# Altium integrated library TI Data Converters Analog to Digital Converter.IntLib: 2197 symbols (part 15 of 168)
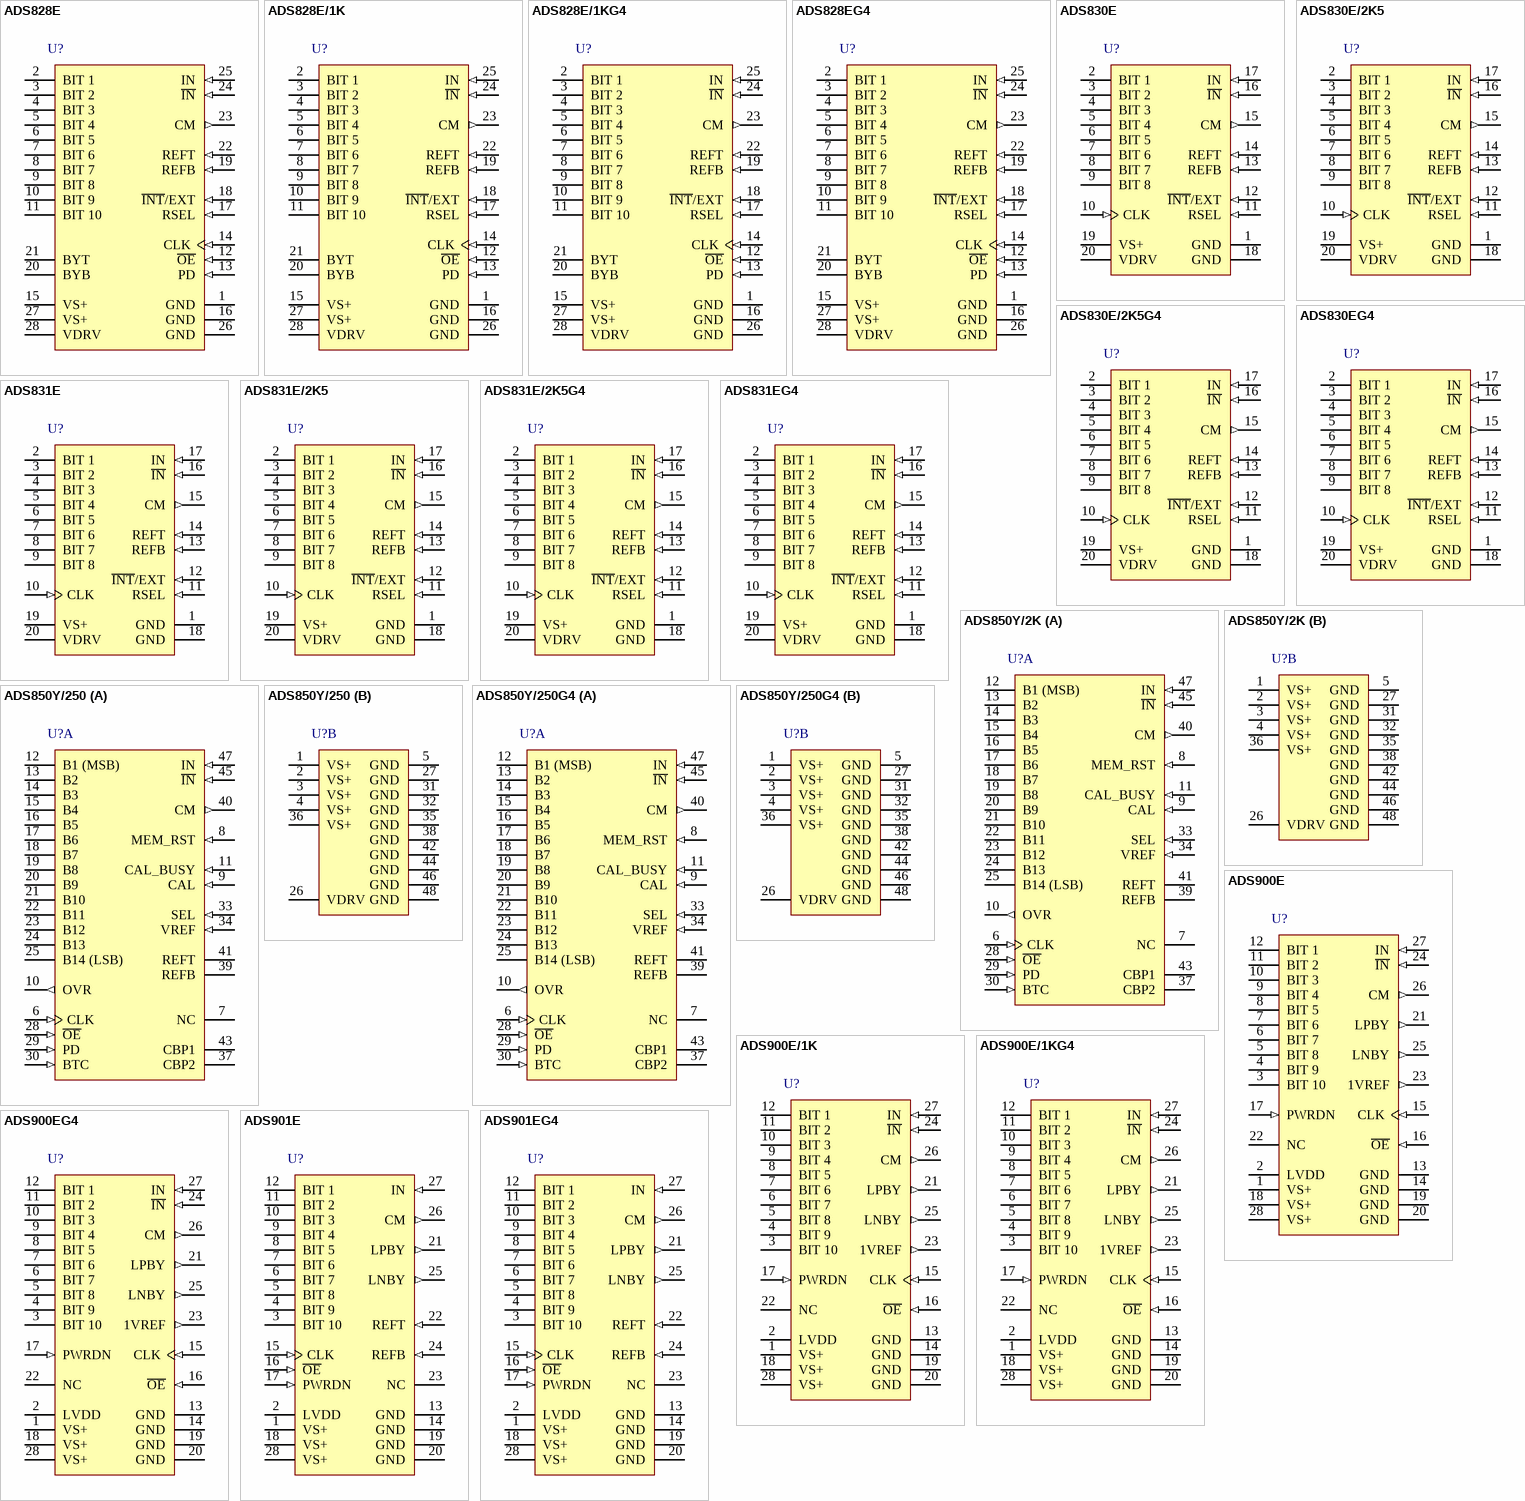
[diagram p140: symbols ADS828E to ADS901EG4]

## ADS830EG4
designator U?
8-Bit, 60 MSPS ADC Single-Ended / Differential Input, Internal / External Reference and Programmble Input Range, -40 to 85 degC, 20-pin SOP (DBQ20), Green (RoHS & no Sb/Br); Manufacturer: Texas Instruments; PartNumber: ADS830EG4; # Input Channels: 1; Analog Voltage AV/DD(Max)(V): 5.25; Analog Voltage AV/DD(Min)(V): 4.75; Architecture: Pipeline; Digital Supply(Max)(V): 5; Digital Supply(Min)(V): 3; ENOB(Bits): 7.7; INL(Max)(+/-LSB): 1.5; Interface: Parallel CMOS; Resolution(Bits): 8; Sample Rate (max)(SPS): 60M; SFDR(dB): 67; SINAD(dB): 48; SNR(dB): 49.5; SubFamily: High Speed ADC (>10MSPS); DatasheetVersion: SBAS086A; PackageVersion: 4073301-3/H, 10/2008; PackageReference: DBQ20; PackageDescription: 20-Pin Plastic Small Outline, Body 8.65 x 3.9 mm, Pitch 0.635 mm; Supplier 1: Digi-Key; Supplier Part Number 1: 296-2199-5-ND; Supplier 2: Newark; Supplier Part Number 2: 76C8332; Supplier 3: Mouser; Supplier Part Number 3: 595-TLV2541CDGK; Eco-Plan: Green (RoHS & no Sb/Br); Mounting Technology: Surface Mount; Code_JEDEC: MO-137; ComponentLink1Description: Manufacturer URL; ComponentLink1URL: http://www.ti.com/; ComponentLink2Description: Datasheet; ComponentLink2URL: http://www.ti.com/general/docs/lit/getliterature.tsp?genericPartNumber=ADS830&fileType=pdf; ComponentLink3Description: Package Specification; ComponentLink3URL: http://www.ti.com/litv/pdf/mpds210a
footprint TI-DBQ20_N (SOP, 20-Leads, Body 8.65x3.9mm, Pitch 0.635mm, IPC Medium Density)
footprint TI-DBQ20_L (SOP, 20-Leads, Body 8.65x3.9mm, Pitch 0.635mm, IPC High Density)
footprint TI-DBQ20_M (SOP, 20-Leads, Body 8.65x3.9mm, Pitch 0.635mm, IPC Low Density)
pins: 1 GND (power) "Ground", 2 BIT 1 (hiz) "Data Bit 1 (D7) (MSB)", 3 BIT 2 (hiz) "Data Bit 2 (D6)", 4 BIT 3 (hiz) "Data Bit 3 (D5)", 5 BIT 4 (hiz) "Data Bit 4 (D4)", 6 BIT 5 (hiz) "Data Bit 5 (D3)", 7 BIT 6 (hiz) "Data Bit 6 (D2)", 8 BIT 7 (hiz) "Data Bit 7 (D1)", 9 BIT 8 (hiz) "Data Bit 8 (D0) (LSB)", 10 CLK (in) "Convert Clock", 11 RSEL (in) "Input Range Select: HI = 2V; LO = 1V", 12 ~{INT}/EXT (in) "Reference Select: HI = External; LO = Internal", 13 REFB (in) "Bottom Reference", 14 REFT (in) "Top Reference", 15 CM (out) "Common-Mode Voltage Output", 16 ~{IN} (in) "Complementary Input", 17 IN (in) "Analog Input", 18 GND (power) "Ground", 19 VS+ (power) "+5V Supply", 20 VDRV (power) "Output Logic Driver Supply Voltage"

## ADS831E
designator U?
8-Bit, 80 MSPS ADC Single-Ended / Differential Input, Internal / External Reference and Programmble Input Range, -40 to 85 degC, 20-pin SOP (DBQ20), Green (RoHS & no Sb/Br); Manufacturer: Texas Instruments; PartNumber: ADS831E; # Input Channels: 1; Analog Voltage AV/DD(Max)(V): 5.25; Analog Voltage AV/DD(Min)(V): 4.75; Architecture: Pipeline; Digital Supply(Max)(V): 5; Digital Supply(Min)(V): 3; ENOB(Bits): 7.8; INL(Max)(+/-LSB): 2; Interface: Parallel CMOS; Resolution(Bits): 8; Sample Rate (max)(SPS): 80M; SFDR(dB): 67; SINAD(dB): 48.5; SNR(dB): 49; SubFamily: High Speed ADC (>10MSPS); DatasheetVersion: SBAS087A; PackageVersion: 4073301-3/H, 10/2008; PackageReference: DBQ20; PackageDescription: 20-Pin Plastic Small Outline, Body 8.65 x 3.9 mm, Pitch 0.635 mm; Supplier 1: Digi-Key; Supplier Part Number 1: TLV2541CDGKG4-ND; Supplier 2: Mouser; Supplier Part Number 2: 595-TLV2541CDGKG4; Eco-Plan: Green (RoHS & no Sb/Br); Mounting Technology: Surface Mount; Code_JEDEC: MO-137; ComponentLink1Description: Manufacturer URL; ComponentLink1URL: http://www.ti.com/; ComponentLink2Description: Datasheet; ComponentLink2URL: http://www.ti.com/general/docs/lit/getliterature.tsp?genericPartNumber=ADS831&fileType=pdf; ComponentLink3Description: Package Specification; ComponentLink3URL: http://www.ti.com/litv/pdf/mpds210a
footprint TI-DBQ20_N (SOP, 20-Leads, Body 8.65x3.9mm, Pitch 0.635mm, IPC Medium Density)
footprint TI-DBQ20_L (SOP, 20-Leads, Body 8.65x3.9mm, Pitch 0.635mm, IPC High Density)
footprint TI-DBQ20_M (SOP, 20-Leads, Body 8.65x3.9mm, Pitch 0.635mm, IPC Low Density)
pins: 1 GND (power) "Ground", 2 BIT 1 (hiz) "Data Bit 1 (D7) (MSB)", 3 BIT 2 (hiz) "Data Bit 2 (D6)", 4 BIT 3 (hiz) "Data Bit 3 (D5)", 5 BIT 4 (hiz) "Data Bit 4 (D4)", 6 BIT 5 (hiz) "Data Bit 5 (D3)", 7 BIT 6 (hiz) "Data Bit 6 (D2)", 8 BIT 7 (hiz) "Data Bit 7 (D1)", 9 BIT 8 (hiz) "Data Bit 8 (D0) (LSB)", 10 CLK (in) "Convert Clock", 11 RSEL (in) "Input Range Select: HI = 2V; LO = 1V", 12 ~{INT}/EXT (in) "Reference Select: HI = External; LO = Internal", 13 REFB (in) "Bottom Reference", 14 REFT (in) "Top Reference", 15 CM (out) "Common-Mode Voltage Output", 16 ~{IN} (in) "Complementary Input", 17 IN (in) "Analog Input", 18 GND (power) "Ground", 19 VS+ (power) "+5V Supply", 20 VDRV (power) "Output Logic Driver Supply Voltage"

## ADS831E/2K5
designator U?
8-Bit, 80 MSPS ADC Single-Ended / Differential Input, Internal / External Reference and Programmble Input Range, -40 to 85 degC, 20-pin SOP (DBQ20), Green (RoHS & no Sb/Br); Manufacturer: Texas Instruments; PartNumber: ADS831E/2K5; # Input Channels: 1; Analog Voltage AV/DD(Max)(V): 5.25; Analog Voltage AV/DD(Min)(V): 4.75; Architecture: Pipeline; Digital Supply(Max)(V): 5; Digital Supply(Min)(V): 3; ENOB(Bits): 7.8; INL(Max)(+/-LSB): 2; Interface: Parallel CMOS; Resolution(Bits): 8; Sample Rate (max)(SPS): 80M; SFDR(dB): 67; SINAD(dB): 48.5; SNR(dB): 49; SubFamily: High Speed ADC (>10MSPS); DatasheetVersion: SBAS087A; PackageVersion: 4073301-3/H, 10/2008; PackageReference: DBQ20; PackageDescription: 20-Pin Plastic Small Outline, Body 8.65 x 3.9 mm, Pitch 0.635 mm; Supplier 1: Digi-Key; Supplier Part Number 1: TLV2541CDGKR-ND; Supplier 2: Mouser; Supplier Part Number 2: 595-TLV2541CDGKR; Eco-Plan: Green (RoHS & no Sb/Br); Mounting Technology: Surface Mount; Code_JEDEC: MO-137; ComponentLink1Description: Manufacturer URL; ComponentLink1URL: http://www.ti.com/; ComponentLink2Description: Datasheet; ComponentLink2URL: http://www.ti.com/general/docs/lit/getliterature.tsp?genericPartNumber=ADS831&fileType=pdf; ComponentLink3Description: Package Specification; ComponentLink3URL: http://www.ti.com/litv/pdf/mpds210a
footprint TI-DBQ20_N (SOP, 20-Leads, Body 8.65x3.9mm, Pitch 0.635mm, IPC Medium Density)
footprint TI-DBQ20_L (SOP, 20-Leads, Body 8.65x3.9mm, Pitch 0.635mm, IPC High Density)
footprint TI-DBQ20_M (SOP, 20-Leads, Body 8.65x3.9mm, Pitch 0.635mm, IPC Low Density)
pins: 1 GND (power) "Ground", 2 BIT 1 (hiz) "Data Bit 1 (D7) (MSB)", 3 BIT 2 (hiz) "Data Bit 2 (D6)", 4 BIT 3 (hiz) "Data Bit 3 (D5)", 5 BIT 4 (hiz) "Data Bit 4 (D4)", 6 BIT 5 (hiz) "Data Bit 5 (D3)", 7 BIT 6 (hiz) "Data Bit 6 (D2)", 8 BIT 7 (hiz) "Data Bit 7 (D1)", 9 BIT 8 (hiz) "Data Bit 8 (D0) (LSB)", 10 CLK (in) "Convert Clock", 11 RSEL (in) "Input Range Select: HI = 2V; LO = 1V", 12 ~{INT}/EXT (in) "Reference Select: HI = External; LO = Internal", 13 REFB (in) "Bottom Reference", 14 REFT (in) "Top Reference", 15 CM (out) "Common-Mode Voltage Output", 16 ~{IN} (in) "Complementary Input", 17 IN (in) "Analog Input", 18 GND (power) "Ground", 19 VS+ (power) "+5V Supply", 20 VDRV (power) "Output Logic Driver Supply Voltage"

## ADS831E/2K5G4
designator U?
8-Bit, 80 MSPS ADC Single-Ended / Differential Input, Internal / External Reference and Programmble Input Range, -40 to 85 degC, 20-pin SOP (DBQ20), Green (RoHS & no Sb/Br); Manufacturer: Texas Instruments; PartNumber: ADS831E/2K5G4; # Input Channels: 1; Analog Voltage AV/DD(Max)(V): 5.25; Analog Voltage AV/DD(Min)(V): 4.75; Architecture: Pipeline; Digital Supply(Max)(V): 5; Digital Supply(Min)(V): 3; ENOB(Bits): 7.8; INL(Max)(+/-LSB): 2; Interface: Parallel CMOS; Resolution(Bits): 8; Sample Rate (max)(SPS): 80M; SFDR(dB): 67; SINAD(dB): 48.5; SNR(dB): 49; SubFamily: High Speed ADC (>10MSPS); DatasheetVersion: SBAS087A; PackageVersion: 4073301-3/H, 10/2008; PackageReference: DBQ20; PackageDescription: 20-Pin Plastic Small Outline, Body 8.65 x 3.9 mm, Pitch 0.635 mm; Supplier 1: Digi-Key; Supplier Part Number 1: TLV2541CDGKRG4-ND; Supplier 2: Mouser; Supplier Part Number 2: 595-TLV2541CDGKRG4; Eco-Plan: Green (RoHS & no Sb/Br); Mounting Technology: Surface Mount; Code_JEDEC: MO-137; ComponentLink1Description: Manufacturer URL; ComponentLink1URL: http://www.ti.com/; ComponentLink2Description: Datasheet; ComponentLink2URL: http://www.ti.com/general/docs/lit/getliterature.tsp?genericPartNumber=ADS831&fileType=pdf; ComponentLink3Description: Package Specification; ComponentLink3URL: http://www.ti.com/litv/pdf/mpds210a
footprint TI-DBQ20_N (SOP, 20-Leads, Body 8.65x3.9mm, Pitch 0.635mm, IPC Medium Density)
footprint TI-DBQ20_L (SOP, 20-Leads, Body 8.65x3.9mm, Pitch 0.635mm, IPC High Density)
footprint TI-DBQ20_M (SOP, 20-Leads, Body 8.65x3.9mm, Pitch 0.635mm, IPC Low Density)
pins: 1 GND (power) "Ground", 2 BIT 1 (hiz) "Data Bit 1 (D7) (MSB)", 3 BIT 2 (hiz) "Data Bit 2 (D6)", 4 BIT 3 (hiz) "Data Bit 3 (D5)", 5 BIT 4 (hiz) "Data Bit 4 (D4)", 6 BIT 5 (hiz) "Data Bit 5 (D3)", 7 BIT 6 (hiz) "Data Bit 6 (D2)", 8 BIT 7 (hiz) "Data Bit 7 (D1)", 9 BIT 8 (hiz) "Data Bit 8 (D0) (LSB)", 10 CLK (in) "Convert Clock", 11 RSEL (in) "Input Range Select: HI = 2V; LO = 1V", 12 ~{INT}/EXT (in) "Reference Select: HI = External; LO = Internal", 13 REFB (in) "Bottom Reference", 14 REFT (in) "Top Reference", 15 CM (out) "Common-Mode Voltage Output", 16 ~{IN} (in) "Complementary Input", 17 IN (in) "Analog Input", 18 GND (power) "Ground", 19 VS+ (power) "+5V Supply", 20 VDRV (power) "Output Logic Driver Supply Voltage"

## ADS831EG4
designator U?
8-Bit, 80 MSPS ADC Single-Ended / Differential Input, Internal / External Reference and Programmble Input Range, -40 to 85 degC, 20-pin SOP (DBQ20), Green (RoHS & no Sb/Br); Manufacturer: Texas Instruments; PartNumber: ADS831EG4; # Input Channels: 1; Analog Voltage AV/DD(Max)(V): 5.25; Analog Voltage AV/DD(Min)(V): 4.75; Architecture: Pipeline; Digital Supply(Max)(V): 5; Digital Supply(Min)(V): 3; ENOB(Bits): 7.8; INL(Max)(+/-LSB): 2; Interface: Parallel CMOS; Resolution(Bits): 8; Sample Rate (max)(SPS): 80M; SFDR(dB): 67; SINAD(dB): 48.5; SNR(dB): 49; SubFamily: High Speed ADC (>10MSPS); DatasheetVersion: SBAS087A; PackageVersion: 4073301-3/H, 10/2008; PackageReference: DBQ20; PackageDescription: 20-Pin Plastic Small Outline, Body 8.65 x 3.9 mm, Pitch 0.635 mm; Supplier 1: Digi-Key; Supplier Part Number 1: 296-2973-5-ND; Supplier 2: Newark; Supplier Part Number 2: 76C8335; Supplier 3: Mouser; Supplier Part Number 3: 595-TLV2541IDGK; Eco-Plan: Green (RoHS & no Sb/Br); Mounting Technology: Surface Mount; Code_JEDEC: MO-137; ComponentLink1Description: Manufacturer URL; ComponentLink1URL: http://www.ti.com/; ComponentLink2Description: Datasheet; ComponentLink2URL: http://www.ti.com/general/docs/lit/getliterature.tsp?genericPartNumber=ADS831&fileType=pdf; ComponentLink3Description: Package Specification; ComponentLink3URL: http://www.ti.com/litv/pdf/mpds210a
footprint TI-DBQ20_N (SOP, 20-Leads, Body 8.65x3.9mm, Pitch 0.635mm, IPC Medium Density)
footprint TI-DBQ20_L (SOP, 20-Leads, Body 8.65x3.9mm, Pitch 0.635mm, IPC High Density)
footprint TI-DBQ20_M (SOP, 20-Leads, Body 8.65x3.9mm, Pitch 0.635mm, IPC Low Density)
pins: 1 GND (power) "Ground", 2 BIT 1 (hiz) "Data Bit 1 (D7) (MSB)", 3 BIT 2 (hiz) "Data Bit 2 (D6)", 4 BIT 3 (hiz) "Data Bit 3 (D5)", 5 BIT 4 (hiz) "Data Bit 4 (D4)", 6 BIT 5 (hiz) "Data Bit 5 (D3)", 7 BIT 6 (hiz) "Data Bit 6 (D2)", 8 BIT 7 (hiz) "Data Bit 7 (D1)", 9 BIT 8 (hiz) "Data Bit 8 (D0) (LSB)", 10 CLK (in) "Convert Clock", 11 RSEL (in) "Input Range Select: HI = 2V; LO = 1V", 12 ~{INT}/EXT (in) "Reference Select: HI = External; LO = Internal", 13 REFB (in) "Bottom Reference", 14 REFT (in) "Top Reference", 15 CM (out) "Common-Mode Voltage Output", 16 ~{IN} (in) "Complementary Input", 17 IN (in) "Analog Input", 18 GND (power) "Ground", 19 VS+ (power) "+5V Supply", 20 VDRV (power) "Output Logic Driver Supply Voltage"

## ADS850Y/2K
designator U?
14-Bit, 10 MSPS ADC Single-Ended / Differential Input, Internal / External Reference, Self Calibrating, -40 to 85 degC, 48-pin QFP (PFB48), Green (RoHS & no Sb/Br); Manufacturer: Texas Instruments; PartNumber: ADS850Y/2K; # Input Channels: 1; Analog Voltage AV/DD(Max)(V): 5.3; Analog Voltage AV/DD(Min)(V): 4.7; Architecture: Pipeline; Digital Supply(Min)(V): 2.7; ENOB(Bits): 12.2; INL(Max)(+/-LSB): 5; Interface: Parallel CMOS; Resolution(Bits): 14; Sample Rate (max)(SPS): 10M; SFDR(dB): 85; SINAD(dB): 75; SNR(dB): 76; SubFamily: Precision ADC (<=10MSPS); DatasheetVersion: SBAS154C; PackageVersion: 4073176/B, 10/1996; PackageReference: PFB48; PackageDescription: 48-Pin Plastic Flat Pack, Body 7 x 7 mm, Pitch 0.5 mm; Supplier 1: Digi-Key; Supplier Part Number 1: TLV2541IDGKG4-ND; Supplier 2: Mouser; Supplier Part Number 2: 595-TLV2541IDGKG4; Digital Supply(Max)(V): 5.3; Eco-Plan: Green (RoHS & no Sb/Br); Mounting Technology: Surface Mount; Code_JEDEC: MS-026; ComponentLink1Description: Manufacturer URL; ComponentLink1URL: http://www.ti.com/; ComponentLink2Description: Datasheet; ComponentLink2URL: http://www.ti.com/general/docs/lit/getliterature.tsp?genericPartNumber=ADS850&fileType=pdf; ComponentLink3Description: Package Specification; ComponentLink3URL: http://www.ti.com/lit/ml/mtqf019a/mtqf019a.pdf
footprint TI-PFB48_N (QFP, 48-Leads, Body 7x7mm, Pitch 0.5mm, IPC Medium Density)
footprint TI-PFB48_L (QFP, 48-Leads, Body 7x7mm, Pitch 0.5mm, IPC High Density)
footprint TI-PFB48_M (QFP, 48-Leads, Body 7x7mm, Pitch 0.5mm, IPC Low Density)
part A pins: 6 CLK (in) "Convert Clock Input", 7 NC "No Connection", 8 MEM_RST (in) "Memory Reset. When pulsed HIGH, resets memory to zero. Not intended as a function pin, so should be permanently tied to ground.", 9 CAL (in) "When Pulsed High, puts ADC into Calibration Mode (2 clock cycles).", 10 OVR (out) "Over Range Indicator", 11 CAL_BUSY (in) "Indicates in Calibration Mode.", 12 B1 (MSB) (hiz) "Data Bit 1 (D13) (MSB)", 13 B2 (hiz) "Data Bit 2 (D12)", 14 B3 (hiz) "Data Bit 3 (D11)", 15 B4 (hiz) "Data Bit 4 (D10)", 16 B5 (hiz) "Data Bit 5 (D9)", 17 B6 (hiz) "Data Bit 6 (D8)", 18 B7 (hiz) "Data Bit 7 (D7)", 19 B8 (hiz) "Data Bit 8 (D6)", 20 B9 (hiz) "Data Bit 9 (D5)", 21 B10 (hiz) "Data Bit 10 (D4)", 22 B11 (hiz) "Data Bit 11 (D3)", 23 B12 (hiz) "Data Bit 12 (D2)", 24 B13 (hiz) "Data Bit 13 (D1)", 25 B14 (LSB) (hiz) "Data Bit 14 (D0) (LSB)", 28 ~{OE} (in) "Output Enable: HI = High Impedance; LO = Normal Operation (50kohm Internal Pull-Down Resistor)", 29 PD (in) "Power Down: HI = Power Down; LO = Normal Operation (50kohm Internal Pull-Down Resistor)", 30 BTC (in) "HI = Binary Two’s Complement (BTC); LO = Straight Offset Binary (SOB)", 33 SEL (in) "Input Range Select", 34 VREF (in) "Reference Voltage Select", 37 CBP2 "Calibration Reference Bypass 2 (0.1uF ceramic capacitor recommended for decoupling.)", 39 REFB "Bottom Reference Voltage Bypass", 40 CM (out) "Common-Mode Voltage (mid-scale). Not intended for driving a load", 41 REFT "Top Reference Voltage Bypass", 43 CBP1 "Calibration Reference Bypass 1 (0.1uF ceramic capacitor recommended for decoupling.)", 45 ~{IN} (in) "Complementary Analog Input (-)", 47 IN (in) "Analog Input (+)"
part B pins: 1 VS+ (power) "+5V Supply", 2 VS+ (power) "+5V Supply", 3 VS+ (power) "+5V Supply", 4 VS+ (power) "+5V Supply", 5 GND (power) "Ground", 26 VDRV (power) "Output Driver Voltage", 27 GND (power) "Ground", 31 GND (power) "Ground", 32 GND (power) "Ground", 35 GND (power) "Ground", 36 VS+ (power) "+5V Supply", 38 GND (power) "Ground", 42 GND (power) "Ground", 44 GND (power) "Ground", 46 GND (power) "Ground", 48 GND (power) "Ground"

## ADS850Y/250
designator U?
14-Bit, 10 MSPS ADC Single-Ended / Differential Input, Internal / External Reference, Self Calibrating, -40 to 85 degC, 48-pin QFP (PFB48), Green (RoHS & no Sb/Br); Manufacturer: Texas Instruments; PartNumber: ADS850Y/250; # Input Channels: 1; Analog Voltage AV/DD(Max)(V): 5.3; Analog Voltage AV/DD(Min)(V): 4.7; Architecture: Pipeline; Digital Supply(Min)(V): 2.7; ENOB(Bits): 12.2; INL(Max)(+/-LSB): 5; Interface: Parallel CMOS; Resolution(Bits): 14; Sample Rate (max)(SPS): 10M; SFDR(dB): 85; SINAD(dB): 75; SNR(dB): 76; SubFamily: Precision ADC (<=10MSPS); DatasheetVersion: SBAS154C; PackageVersion: 4073176/B, 10/1996; PackageReference: PFB48; PackageDescription: 48-Pin Plastic Flat Pack, Body 7 x 7 mm, Pitch 0.5 mm; Supplier 1: Digi-Key; Supplier Part Number 1: TLV2541IDGKR-ND; Supplier 2: Mouser; Supplier Part Number 2: 595-TLV2541IDGKR; Digital Supply(Max)(V): 5.3; Eco-Plan: Green (RoHS & no Sb/Br); Mounting Technology: Surface Mount; Code_JEDEC: MS-026; ComponentLink1Description: Manufacturer URL; ComponentLink1URL: http://www.ti.com/; ComponentLink2Description: Datasheet; ComponentLink2URL: http://www.ti.com/general/docs/lit/getliterature.tsp?genericPartNumber=ADS850&fileType=pdf; ComponentLink3Description: Package Specification; ComponentLink3URL: http://www.ti.com/lit/ml/mtqf019a/mtqf019a.pdf
footprint TI-PFB48_N (QFP, 48-Leads, Body 7x7mm, Pitch 0.5mm, IPC Medium Density)
footprint TI-PFB48_L (QFP, 48-Leads, Body 7x7mm, Pitch 0.5mm, IPC High Density)
footprint TI-PFB48_M (QFP, 48-Leads, Body 7x7mm, Pitch 0.5mm, IPC Low Density)
part A pins: 6 CLK (in) "Convert Clock Input", 7 NC "No Connection", 8 MEM_RST (in) "Memory Reset. When pulsed HIGH, resets memory to zero. Not intended as a function pin, so should be permanently tied to ground.", 9 CAL (in) "When Pulsed High, puts ADC into Calibration Mode (2 clock cycles).", 10 OVR (out) "Over Range Indicator", 11 CAL_BUSY (in) "Indicates in Calibration Mode.", 12 B1 (MSB) (hiz) "Data Bit 1 (D13) (MSB)", 13 B2 (hiz) "Data Bit 2 (D12)", 14 B3 (hiz) "Data Bit 3 (D11)", 15 B4 (hiz) "Data Bit 4 (D10)", 16 B5 (hiz) "Data Bit 5 (D9)", 17 B6 (hiz) "Data Bit 6 (D8)", 18 B7 (hiz) "Data Bit 7 (D7)", 19 B8 (hiz) "Data Bit 8 (D6)", 20 B9 (hiz) "Data Bit 9 (D5)", 21 B10 (hiz) "Data Bit 10 (D4)", 22 B11 (hiz) "Data Bit 11 (D3)", 23 B12 (hiz) "Data Bit 12 (D2)", 24 B13 (hiz) "Data Bit 13 (D1)", 25 B14 (LSB) (hiz) "Data Bit 14 (D0) (LSB)", 28 ~{OE} (in) "Output Enable: HI = High Impedance; LO = Normal Operation (50kohm Internal Pull-Down Resistor)", 29 PD (in) "Power Down: HI = Power Down; LO = Normal Operation (50kohm Internal Pull-Down Resistor)", 30 BTC (in) "HI = Binary Two’s Complement (BTC); LO = Straight Offset Binary (SOB)", 33 SEL (in) "Input Range Select", 34 VREF (in) "Reference Voltage Select", 37 CBP2 "Calibration Reference Bypass 2 (0.1uF ceramic capacitor recommended for decoupling.)", 39 REFB "Bottom Reference Voltage Bypass", 40 CM (out) "Common-Mode Voltage (mid-scale). Not intended for driving a load", 41 REFT "Top Reference Voltage Bypass", 43 CBP1 "Calibration Reference Bypass 1 (0.1uF ceramic capacitor recommended for decoupling.)", 45 ~{IN} (in) "Complementary Analog Input (-)", 47 IN (in) "Analog Input (+)"
part B pins: 1 VS+ (power) "+5V Supply", 2 VS+ (power) "+5V Supply", 3 VS+ (power) "+5V Supply", 4 VS+ (power) "+5V Supply", 5 GND (power) "Ground", 26 VDRV (power) "Output Driver Voltage", 27 GND (power) "Ground", 31 GND (power) "Ground", 32 GND (power) "Ground", 35 GND (power) "Ground", 36 VS+ (power) "+5V Supply", 38 GND (power) "Ground", 42 GND (power) "Ground", 44 GND (power) "Ground", 46 GND (power) "Ground", 48 GND (power) "Ground"

## ADS850Y/250G4
designator U?
14-Bit, 10 MSPS ADC Single-Ended / Differential Input, Internal / External Reference, Self Calibrating, -40 to 85 degC, 48-pin QFP (PFB48), Green (RoHS & no Sb/Br); Manufacturer: Texas Instruments; PartNumber: ADS850Y/250G4; # Input Channels: 1; Analog Voltage AV/DD(Max)(V): 5.3; Analog Voltage AV/DD(Min)(V): 4.7; Architecture: Pipeline; Digital Supply(Min)(V): 2.7; ENOB(Bits): 12.2; INL(Max)(+/-LSB): 5; Interface: Parallel CMOS; Resolution(Bits): 14; Sample Rate (max)(SPS): 10M; SFDR(dB): 85; SINAD(dB): 75; SNR(dB): 76; SubFamily: Precision ADC (<=10MSPS); DatasheetVersion: SBAS154C; PackageVersion: 4073176/B, 10/1996; PackageReference: PFB48; PackageDescription: 48-Pin Plastic Flat Pack, Body 7 x 7 mm, Pitch 0.5 mm; Supplier 1: Digi-Key; Supplier Part Number 1: TLV2541IDGKRG4-ND; Supplier 2: Mouser; Supplier Part Number 2: 595-TLV2541IDGKRG4; Digital Supply(Max)(V): 5.3; Eco-Plan: Green (RoHS & no Sb/Br); Mounting Technology: Surface Mount; Code_JEDEC: MS-026; ComponentLink1Description: Manufacturer URL; ComponentLink1URL: http://www.ti.com/; ComponentLink2Description: Datasheet; ComponentLink2URL: http://www.ti.com/general/docs/lit/getliterature.tsp?genericPartNumber=ADS850&fileType=pdf; ComponentLink3Description: Package Specification; ComponentLink3URL: http://www.ti.com/lit/ml/mtqf019a/mtqf019a.pdf
footprint TI-PFB48_N (QFP, 48-Leads, Body 7x7mm, Pitch 0.5mm, IPC Medium Density)
footprint TI-PFB48_L (QFP, 48-Leads, Body 7x7mm, Pitch 0.5mm, IPC High Density)
footprint TI-PFB48_M (QFP, 48-Leads, Body 7x7mm, Pitch 0.5mm, IPC Low Density)
part A pins: 6 CLK (in) "Convert Clock Input", 7 NC "No Connection", 8 MEM_RST (in) "Memory Reset. When pulsed HIGH, resets memory to zero. Not intended as a function pin, so should be permanently tied to ground.", 9 CAL (in) "When Pulsed High, puts ADC into Calibration Mode (2 clock cycles).", 10 OVR (out) "Over Range Indicator", 11 CAL_BUSY (in) "Indicates in Calibration Mode.", 12 B1 (MSB) (hiz) "Data Bit 1 (D13) (MSB)", 13 B2 (hiz) "Data Bit 2 (D12)", 14 B3 (hiz) "Data Bit 3 (D11)", 15 B4 (hiz) "Data Bit 4 (D10)", 16 B5 (hiz) "Data Bit 5 (D9)", 17 B6 (hiz) "Data Bit 6 (D8)", 18 B7 (hiz) "Data Bit 7 (D7)", 19 B8 (hiz) "Data Bit 8 (D6)", 20 B9 (hiz) "Data Bit 9 (D5)", 21 B10 (hiz) "Data Bit 10 (D4)", 22 B11 (hiz) "Data Bit 11 (D3)", 23 B12 (hiz) "Data Bit 12 (D2)", 24 B13 (hiz) "Data Bit 13 (D1)", 25 B14 (LSB) (hiz) "Data Bit 14 (D0) (LSB)", 28 ~{OE} (in) "Output Enable: HI = High Impedance; LO = Normal Operation (50kohm Internal Pull-Down Resistor)", 29 PD (in) "Power Down: HI = Power Down; LO = Normal Operation (50kohm Internal Pull-Down Resistor)", 30 BTC (in) "HI = Binary Two’s Complement (BTC); LO = Straight Offset Binary (SOB)", 33 SEL (in) "Input Range Select", 34 VREF (in) "Reference Voltage Select", 37 CBP2 "Calibration Reference Bypass 2 (0.1uF ceramic capacitor recommended for decoupling.)", 39 REFB "Bottom Reference Voltage Bypass", 40 CM (out) "Common-Mode Voltage (mid-scale). Not intended for driving a load", 41 REFT "Top Reference Voltage Bypass", 43 CBP1 "Calibration Reference Bypass 1 (0.1uF ceramic capacitor recommended for decoupling.)", 45 ~{IN} (in) "Complementary Analog Input (-)", 47 IN (in) "Analog Input (+)"
part B pins: 1 VS+ (power) "+5V Supply", 2 VS+ (power) "+5V Supply", 3 VS+ (power) "+5V Supply", 4 VS+ (power) "+5V Supply", 5 GND (power) "Ground", 26 VDRV (power) "Output Driver Voltage", 27 GND (power) "Ground", 31 GND (power) "Ground", 32 GND (power) "Ground", 35 GND (power) "Ground", 36 VS+ (power) "+5V Supply", 38 GND (power) "Ground", 42 GND (power) "Ground", 44 GND (power) "Ground", 46 GND (power) "Ground", 48 GND (power) "Ground"

## ADS900E
designator U?
10-Bit, 20 MSPS ADC Single-Ended / Differential Inputs, Int Reference and Adjustable Fullscale Range, -40 to 85 degC, 28-pin SOP (DB28), Green (RoHS & no Sb/Br); Manufacturer: Texas Instruments; PartNumber: ADS900E; # Input Channels: 1; Analog Voltage AV/DD(Max)(V): 3.7; Analog Voltage AV/DD(Min)(V): 2.7; Architecture: Pipeline; Interface: Parallel CMOS; Resolution(Bits): 10; Sample Rate (max)(SPS): 20M; SFDR(dB): 53; SINAD(dB): 48; SNR(dB): 49; SubFamily: High Speed ADC (>10MSPS); DatasheetVersion: SBAS058A; PackageVersion: 4040065/E, 12/2001; PackageReference: DB28; PackageDescription: 28-Pin Plastic Small Outline, Body 10.2 X 5.3 mm, Pitch 0.65 mm; Supplier 1: Digi-Key; Supplier Part Number 1: 296-2203-5-ND; Supplier 2: Newark; Supplier Part Number 2: 76C8362; Supplier 3: Mouser; Supplier Part Number 3: 595-TLV2545CDGK; Digital Supply(Max)(V): 3.7; Digital Supply(Min)(V): 2.7; Eco-Plan: Green (RoHS & no Sb/Br); Mounting Technology: Surface Mount; Code_JEDEC: MO-150; ComponentLink1Description: Manufacturer URL; ComponentLink1URL: http://www.ti.com/; ComponentLink2Description: Datasheet; ComponentLink2URL: http://www.ti.com/general/docs/lit/getliterature.tsp?genericPartNumber=ADS900&fileType=pdf; ComponentLink3Description: Package Specification; ComponentLink3URL: http://www.ti.com/lit/ml/msso002e/msso002e.pdf
footprint TI-DB28_N (SOP, 28-Leads, Body 10.2x5.3mm, Pitch 0.65mm, IPC Medium Density)
footprint TI-DB28_L (SOP, 28-Leads, Body 10.2x5.3mm, Pitch 0.65mm, IPC High Density)
footprint TI-DB28_M (SOP, 28-Leads, Body 10.2x5.3mm, Pitch 0.65mm, IPC Low Density)
pins: 1 VS+ (power) "Analog Supply", 2 LVDD (power) "Output Logic Driver Supply Voltage", 3 BIT 10 (hiz) "Data Bit 10 (D0) (LSB)", 4 BIT 9 (hiz) "Data Bit 9 (D1)", 5 BIT 8 (hiz) "Data Bit 8 (D2)", 6 BIT 7 (hiz) "Data Bit 7 (D3)", 7 BIT 6 (hiz) "Data Bit 6 (D4)", 8 BIT 5 (hiz) "Data Bit 5 (D5)", 9 BIT 4 (hiz) "Data Bit 4 (D6)", 10 BIT 3 (hiz) "Data Bit 3 (D7)", 11 BIT 2 (hiz) "Data Bit 2 (D8)", 12 BIT 1 (hiz) "Data Bit 1 (D9) (MSB)", 13 GND (power) "Analog Ground", 14 GND (power) "Analog Ground", 15 CLK (in) "Convert Clock Input", 16 ~{OE} (in) "Output Enable, Active Low", 17 PWRDN (in) "Power Down Pin", 18 VS+ (power) "Analog Supply", 19 GND (power) "Analog Ground", 20 GND (power) "Analog Ground", 21 LPBY (out) "Positive Ladder Bypass", 22 NC "No Connection", 23 1VREF (out) "1V Reference Output", 24 ~{IN} (in) "Complementary Input", 25 LNBY (out) "Negative Ladder Bypass", 26 CM (out) "Common-Mode Voltage Output", 27 IN (in) "Analog Input", 28 VS+ (power) "Analog Supply"

## ADS900E/1K
designator U?
10-Bit, 20 MSPS ADC Single-Ended / Differential Inputs, Int Reference and Adjustable Fullscale Range, -40 to 85 degC, 28-pin SOP (DB28), Green (RoHS & no Sb/Br); Manufacturer: Texas Instruments; PartNumber: ADS900E/1K; # Input Channels: 1; Analog Voltage AV/DD(Max)(V): 3.7; Analog Voltage AV/DD(Min)(V): 2.7; Architecture: Pipeline; Interface: Parallel CMOS; Resolution(Bits): 10; Sample Rate (max)(SPS): 20M; SFDR(dB): 53; SINAD(dB): 48; SNR(dB): 49; SubFamily: High Speed ADC (>10MSPS); DatasheetVersion: SBAS058A; PackageVersion: 4040065/E, 12/2001; PackageReference: DB28; PackageDescription: 28-Pin Plastic Small Outline, Body 10.2 X 5.3 mm, Pitch 0.65 mm; Supplier 1: Digi-Key; Supplier Part Number 1: TLV2545CDGKG4-ND; Supplier 2: Mouser; Supplier Part Number 2: 595-TLV2545CDGKG4; Digital Supply(Max)(V): 3.7; Digital Supply(Min)(V): 2.7; Eco-Plan: Green (RoHS & no Sb/Br); Mounting Technology: Surface Mount; Code_JEDEC: MO-150; ComponentLink1Description: Manufacturer URL; ComponentLink1URL: http://www.ti.com/; ComponentLink2Description: Datasheet; ComponentLink2URL: http://www.ti.com/general/docs/lit/getliterature.tsp?genericPartNumber=ADS900&fileType=pdf; ComponentLink3Description: Package Specification; ComponentLink3URL: http://www.ti.com/lit/ml/msso002e/msso002e.pdf
footprint TI-DB28_N (SOP, 28-Leads, Body 10.2x5.3mm, Pitch 0.65mm, IPC Medium Density)
footprint TI-DB28_L (SOP, 28-Leads, Body 10.2x5.3mm, Pitch 0.65mm, IPC High Density)
footprint TI-DB28_M (SOP, 28-Leads, Body 10.2x5.3mm, Pitch 0.65mm, IPC Low Density)
pins: 1 VS+ (power) "Analog Supply", 2 LVDD (power) "Output Logic Driver Supply Voltage", 3 BIT 10 (hiz) "Data Bit 10 (D0) (LSB)", 4 BIT 9 (hiz) "Data Bit 9 (D1)", 5 BIT 8 (hiz) "Data Bit 8 (D2)", 6 BIT 7 (hiz) "Data Bit 7 (D3)", 7 BIT 6 (hiz) "Data Bit 6 (D4)", 8 BIT 5 (hiz) "Data Bit 5 (D5)", 9 BIT 4 (hiz) "Data Bit 4 (D6)", 10 BIT 3 (hiz) "Data Bit 3 (D7)", 11 BIT 2 (hiz) "Data Bit 2 (D8)", 12 BIT 1 (hiz) "Data Bit 1 (D9) (MSB)", 13 GND (power) "Analog Ground", 14 GND (power) "Analog Ground", 15 CLK (in) "Convert Clock Input", 16 ~{OE} (in) "Output Enable, Active Low", 17 PWRDN (in) "Power Down Pin", 18 VS+ (power) "Analog Supply", 19 GND (power) "Analog Ground", 20 GND (power) "Analog Ground", 21 LPBY (out) "Positive Ladder Bypass", 22 NC "No Connection", 23 1VREF (out) "1V Reference Output", 24 ~{IN} (in) "Complementary Input", 25 LNBY (out) "Negative Ladder Bypass", 26 CM (out) "Common-Mode Voltage Output", 27 IN (in) "Analog Input", 28 VS+ (power) "Analog Supply"

## ADS900E/1KG4
designator U?
10-Bit, 20 MSPS ADC Single-Ended / Differential Inputs, Int Reference and Adjustable Fullscale Range, -40 to 85 degC, 28-pin SOP (DB28), Green (RoHS & no Sb/Br); Manufacturer: Texas Instruments; PartNumber: ADS900E/1KG4; # Input Channels: 1; Analog Voltage AV/DD(Max)(V): 3.7; Analog Voltage AV/DD(Min)(V): 2.7; Architecture: Pipeline; Interface: Parallel CMOS; Resolution(Bits): 10; Sample Rate (max)(SPS): 20M; SFDR(dB): 53; SINAD(dB): 48; SNR(dB): 49; SubFamily: High Speed ADC (>10MSPS); DatasheetVersion: SBAS058A; PackageVersion: 4040065/E, 12/2001; PackageReference: DB28; PackageDescription: 28-Pin Plastic Small Outline, Body 10.2 X 5.3 mm, Pitch 0.65 mm; Supplier 1: Digi-Key; Supplier Part Number 1: 296-2985-5-ND; Supplier 2: Mouser; Supplier Part Number 2: 595-TLV2545IDGK; Digital Supply(Max)(V): 3.7; Digital Supply(Min)(V): 2.7; Eco-Plan: Green (RoHS & no Sb/Br); Mounting Technology: Surface Mount; Code_JEDEC: MO-150; ComponentLink1Description: Manufacturer URL; ComponentLink1URL: http://www.ti.com/; ComponentLink2Description: Datasheet; ComponentLink2URL: http://www.ti.com/general/docs/lit/getliterature.tsp?genericPartNumber=ADS900&fileType=pdf; ComponentLink3Description: Package Specification; ComponentLink3URL: http://www.ti.com/lit/ml/msso002e/msso002e.pdf
footprint TI-DB28_N (SOP, 28-Leads, Body 10.2x5.3mm, Pitch 0.65mm, IPC Medium Density)
footprint TI-DB28_L (SOP, 28-Leads, Body 10.2x5.3mm, Pitch 0.65mm, IPC High Density)
footprint TI-DB28_M (SOP, 28-Leads, Body 10.2x5.3mm, Pitch 0.65mm, IPC Low Density)
pins: 1 VS+ (power) "Analog Supply", 2 LVDD (power) "Output Logic Driver Supply Voltage", 3 BIT 10 (hiz) "Data Bit 10 (D0) (LSB)", 4 BIT 9 (hiz) "Data Bit 9 (D1)", 5 BIT 8 (hiz) "Data Bit 8 (D2)", 6 BIT 7 (hiz) "Data Bit 7 (D3)", 7 BIT 6 (hiz) "Data Bit 6 (D4)", 8 BIT 5 (hiz) "Data Bit 5 (D5)", 9 BIT 4 (hiz) "Data Bit 4 (D6)", 10 BIT 3 (hiz) "Data Bit 3 (D7)", 11 BIT 2 (hiz) "Data Bit 2 (D8)", 12 BIT 1 (hiz) "Data Bit 1 (D9) (MSB)", 13 GND (power) "Analog Ground", 14 GND (power) "Analog Ground", 15 CLK (in) "Convert Clock Input", 16 ~{OE} (in) "Output Enable, Active Low", 17 PWRDN (in) "Power Down Pin", 18 VS+ (power) "Analog Supply", 19 GND (power) "Analog Ground", 20 GND (power) "Analog Ground", 21 LPBY (out) "Positive Ladder Bypass", 22 NC "No Connection", 23 1VREF (out) "1V Reference Output", 24 ~{IN} (in) "Complementary Input", 25 LNBY (out) "Negative Ladder Bypass", 26 CM (out) "Common-Mode Voltage Output", 27 IN (in) "Analog Input", 28 VS+ (power) "Analog Supply"

## ADS900EG4
designator U?
10-Bit, 20 MSPS ADC Single-Ended / Differential Inputs, Int Reference and Adjustable Fullscale Range, -40 to 85 degC, 28-pin SOP (DB28), Green (RoHS & no Sb/Br); Manufacturer: Texas Instruments; PartNumber: ADS900EG4; # Input Channels: 1; Analog Voltage AV/DD(Max)(V): 3.7; Analog Voltage AV/DD(Min)(V): 2.7; Architecture: Pipeline; Interface: Parallel CMOS; Resolution(Bits): 10; Sample Rate (max)(SPS): 20M; SFDR(dB): 53; SINAD(dB): 48; SNR(dB): 49; SubFamily: High Speed ADC (>10MSPS); DatasheetVersion: SBAS058A; PackageVersion: 4040065/E, 12/2001; PackageReference: DB28; PackageDescription: 28-Pin Plastic Small Outline, Body 10.2 X 5.3 mm, Pitch 0.65 mm; Supplier 1: Digi-Key; Supplier Part Number 1: TLV2545IDGKG4-ND; Supplier 2: Mouser; Supplier Part Number 2: 595-TLV2545IDGKG4; Digital Supply(Max)(V): 3.7; Digital Supply(Min)(V): 2.7; Eco-Plan: Green (RoHS & no Sb/Br); Mounting Technology: Surface Mount; Code_JEDEC: MO-150; ComponentLink1Description: Manufacturer URL; ComponentLink1URL: http://www.ti.com/; ComponentLink2Description: Datasheet; ComponentLink2URL: http://www.ti.com/general/docs/lit/getliterature.tsp?genericPartNumber=ADS900&fileType=pdf; ComponentLink3Description: Package Specification; ComponentLink3URL: http://www.ti.com/lit/ml/msso002e/msso002e.pdf
footprint TI-DB28_N (SOP, 28-Leads, Body 10.2x5.3mm, Pitch 0.65mm, IPC Medium Density)
footprint TI-DB28_L (SOP, 28-Leads, Body 10.2x5.3mm, Pitch 0.65mm, IPC High Density)
footprint TI-DB28_M (SOP, 28-Leads, Body 10.2x5.3mm, Pitch 0.65mm, IPC Low Density)
pins: 1 VS+ (power) "Analog Supply", 2 LVDD (power) "Output Logic Driver Supply Voltage", 3 BIT 10 (hiz) "Data Bit 10 (D0) (LSB)", 4 BIT 9 (hiz) "Data Bit 9 (D1)", 5 BIT 8 (hiz) "Data Bit 8 (D2)", 6 BIT 7 (hiz) "Data Bit 7 (D3)", 7 BIT 6 (hiz) "Data Bit 6 (D4)", 8 BIT 5 (hiz) "Data Bit 5 (D5)", 9 BIT 4 (hiz) "Data Bit 4 (D6)", 10 BIT 3 (hiz) "Data Bit 3 (D7)", 11 BIT 2 (hiz) "Data Bit 2 (D8)", 12 BIT 1 (hiz) "Data Bit 1 (D9) (MSB)", 13 GND (power) "Analog Ground", 14 GND (power) "Analog Ground", 15 CLK (in) "Convert Clock Input", 16 ~{OE} (in) "Output Enable, Active Low", 17 PWRDN (in) "Power Down Pin", 18 VS+ (power) "Analog Supply", 19 GND (power) "Analog Ground", 20 GND (power) "Analog Ground", 21 LPBY (out) "Positive Ladder Bypass", 22 NC "No Connection", 23 1VREF (out) "1V Reference Output", 24 ~{IN} (in) "Complementary Input", 25 LNBY (out) "Negative Ladder Bypass", 26 CM (out) "Common-Mode Voltage Output", 27 IN (in) "Analog Input", 28 VS+ (power) "Analog Supply"

## ADS901E
designator U?
10-Bit, 20 MSPS ADC Single-Ended / Differential Inputs, Ext Reference and Adjustable Fullscale Range, -40 to 85 degC, 28-pin SOP (DB28), Green (RoHS & no Sb/Br); Manufacturer: Texas Instruments; PartNumber: ADS901E; # Input Channels: 1; Analog Voltage AV/DD(Max)(V): 3.7; Analog Voltage AV/DD(Min)(V): 2.7; Architecture: Pipeline; Digital Supply(Max)(V): 3; ENOB(Bits): 8; Interface: Parallel CMOS; Resolution(Bits): 10; Sample Rate (max)(SPS): 20M; SFDR(dB): 50; SNR(dB): 53; SubFamily: High Speed ADC (>10MSPS); DatasheetVersion: SBAS054A; PackageVersion: 4040065/E, 12/2001; PackageReference: DB28; PackageDescription: 28-Pin Plastic Small Outline, Body 10.2 X 5.3 mm, Pitch 0.65 mm; Supplier 1: Digi-Key; Supplier Part Number 1: ADS8321ETR-ND; Supplier 2: Digi-Key; Supplier Part Number 2: ADS8321ECT-ND; Supplier 3: Digi-Key; Supplier Part Number 3: ADS8321EDKR-ND; Supplier 4: Farnell; Supplier Part Number 4: 1470332; Supplier 5: Newark; Supplier Part Number 5: 35C1583; Supplier 6: Mouser; Supplier Part Number 6: 595-ADS8321E/250; Digital Supply(Min)(V): 3; Eco-Plan: Green (RoHS & no Sb/Br); SINAD(dB): 50; Mounting Technology: Surface Mount; Code_JEDEC: MO-150; ComponentLink1Description: Manufacturer URL; ComponentLink1URL: http://www.ti.com/; ComponentLink2Description: Datasheet; ComponentLink2URL: http://www.ti.com/general/docs/lit/getliterature.tsp?genericPartNumber=ADS901&fileType=pdf; ComponentLink3Description: Package Specification; ComponentLink3URL: http://www.ti.com/lit/ml/msso002e/msso002e.pdf
footprint TI-DB28_N (SOP, 28-Leads, Body 10.2x5.3mm, Pitch 0.65mm, IPC Medium Density)
footprint TI-DB28_L (SOP, 28-Leads, Body 10.2x5.3mm, Pitch 0.65mm, IPC High Density)
footprint TI-DB28_M (SOP, 28-Leads, Body 10.2x5.3mm, Pitch 0.65mm, IPC Low Density)
pins: 1 VS+ (power) "Analog Supply", 2 LVDD (power) "Output Logic Driver Supply Voltage", 3 BIT 10 (hiz) "Data Bit 10 (D0) (LSB)", 4 BIT 9 (hiz) "Data Bit 9 (D1)", 5 BIT 8 (hiz) "Data Bit 8 (D2)", 6 BIT 7 (hiz) "Data Bit 7 (D3)", 7 BIT 6 (hiz) "Data Bit 6 (D4)", 8 BIT 5 (hiz) "Data Bit 5 (D5)", 9 BIT 4 (hiz) "Data Bit 4 (D6)", 10 BIT 3 (hiz) "Data Bit 3 (D7)", 11 BIT 2 (hiz) "Data Bit 2 (D8)", 12 BIT 1 (hiz) "Data Bit 1 (D9) (MSB)", 13 GND (power) "Analog Ground", 14 GND (power) "Analog Ground", 15 CLK (in) "Convert Clock Input", 16 ~{OE} (in) "Output Enable, Active Low", 17 PWRDN (in) "Power Down Pin", 18 VS+ (power) "Analog Supply", 19 GND (power) "Analog Ground", 20 GND (power) "Analog Ground", 21 LPBY (out) "Positive Ladder Bypass", 22 REFT (in) "Top Reference Input", 23 NC "No Connection", 24 REFB (in) "Bottom Reference Input", 25 LNBY (out) "Negative Ladder Bypass", 26 CM (out) "Common-Mode Voltage Output", 27 IN (in) "Analog Input", 28 VS+ (power) "Analog Supply"

## ADS901EG4
designator U?
10-Bit, 20 MSPS ADC Single-Ended / Differential Inputs, Ext Reference and Adjustable Fullscale Range, -40 to 85 degC, 28-pin SOP (DB28), Green (RoHS & no Sb/Br); Manufacturer: Texas Instruments; PartNumber: ADS901EG4; # Input Channels: 1; Analog Voltage AV/DD(Max)(V): 3.7; Analog Voltage AV/DD(Min)(V): 2.7; Architecture: Pipeline; Digital Supply(Max)(V): 3; ENOB(Bits): 8; Interface: Parallel CMOS; Resolution(Bits): 10; Sample Rate (max)(SPS): 20M; SFDR(dB): 50; SNR(dB): 53; SubFamily: High Speed ADC (>10MSPS); DatasheetVersion: SBAS054A; PackageVersion: 4040065/E, 12/2001; PackageReference: DB28; PackageDescription: 28-Pin Plastic Small Outline, Body 10.2 X 5.3 mm, Pitch 0.65 mm; Supplier 1: Digi-Key; Supplier Part Number 1: ADS8321E/250G4-ND; Supplier 2: Farnell; Supplier Part Number 2: 1206877; Supplier 3: Newark; Supplier Part Number 3: 96K6251; Supplier 4: Newark; Supplier Part Number 4: 24K4055; Supplier 5: Mouser; Supplier Part Number 5: 595-ADS8321E/250G4; Digital Supply(Min)(V): 3; Eco-Plan: Green (RoHS & no Sb/Br); SINAD(dB): 50; Mounting Technology: Surface Mount; Code_JEDEC: MO-150; ComponentLink1Description: Manufacturer URL; ComponentLink1URL: http://www.ti.com/; ComponentLink2Description: Datasheet; ComponentLink2URL: http://www.ti.com/general/docs/lit/getliterature.tsp?genericPartNumber=ADS901&fileType=pdf; ComponentLink3Description: Package Specification; ComponentLink3URL: http://www.ti.com/lit/ml/msso002e/msso002e.pdf
footprint TI-DB28_N (SOP, 28-Leads, Body 10.2x5.3mm, Pitch 0.65mm, IPC Medium Density)
footprint TI-DB28_L (SOP, 28-Leads, Body 10.2x5.3mm, Pitch 0.65mm, IPC High Density)
footprint TI-DB28_M (SOP, 28-Leads, Body 10.2x5.3mm, Pitch 0.65mm, IPC Low Density)
pins: 1 VS+ (power) "Analog Supply", 2 LVDD (power) "Output Logic Driver Supply Voltage", 3 BIT 10 (hiz) "Data Bit 10 (D0) (LSB)", 4 BIT 9 (hiz) "Data Bit 9 (D1)", 5 BIT 8 (hiz) "Data Bit 8 (D2)", 6 BIT 7 (hiz) "Data Bit 7 (D3)", 7 BIT 6 (hiz) "Data Bit 6 (D4)", 8 BIT 5 (hiz) "Data Bit 5 (D5)", 9 BIT 4 (hiz) "Data Bit 4 (D6)", 10 BIT 3 (hiz) "Data Bit 3 (D7)", 11 BIT 2 (hiz) "Data Bit 2 (D8)", 12 BIT 1 (hiz) "Data Bit 1 (D9) (MSB)", 13 GND (power) "Analog Ground", 14 GND (power) "Analog Ground", 15 CLK (in) "Convert Clock Input", 16 ~{OE} (in) "Output Enable, Active Low", 17 PWRDN (in) "Power Down Pin", 18 VS+ (power) "Analog Supply", 19 GND (power) "Analog Ground", 20 GND (power) "Analog Ground", 21 LPBY (out) "Positive Ladder Bypass", 22 REFT (in) "Top Reference Input", 23 NC "No Connection", 24 REFB (in) "Bottom Reference Input", 25 LNBY (out) "Negative Ladder Bypass", 26 CM (out) "Common-Mode Voltage Output", 27 IN (in) "Analog Input", 28 VS+ (power) "Analog Supply"

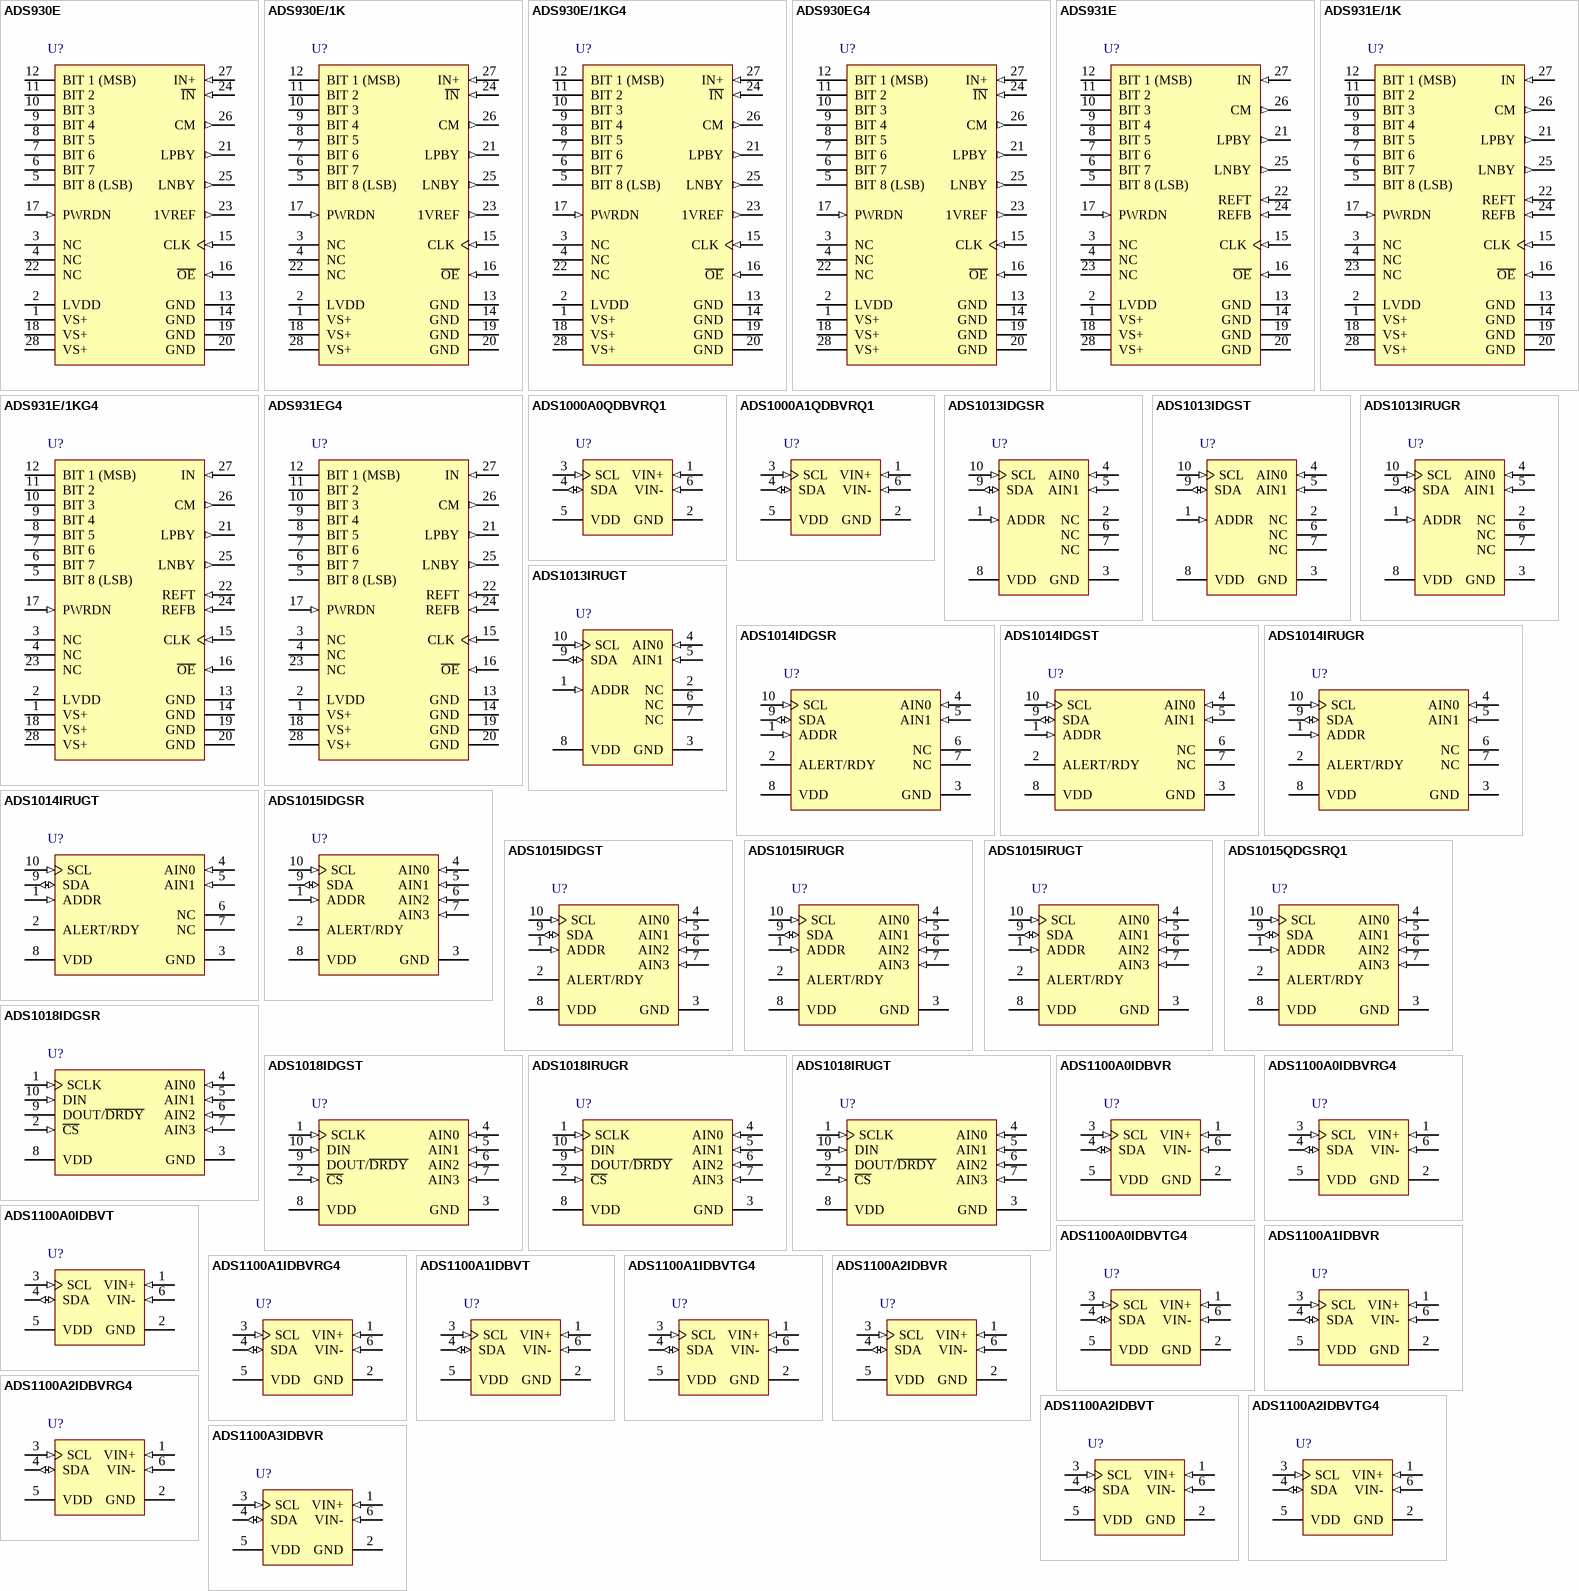
[diagram p11: symbols ADS930E to ADS1100A3IDBVR]

## ADS930E
designator U?
8-Bit, 30 MSPS ADC Single-Ended / Differential Inputs with Internal Reference and Low Power, Power Down, -40 to 85 degC, 28-pin SOP (DB28), Green (RoHS & no Sb/Br); Manufacturer: Texas Instruments; PartNumber: ADS930E; # Input Channels: 1; Analog Voltage AV/DD(Max)(V): 5.25; Analog Voltage AV/DD(Min)(V): 2.7; Architecture: Pipeline; Digital Supply(Max)(V): 5; Digital Supply(Min)(V): 3; ENOB(Bits): 7.1; INL(Max)(+/-LSB): 2.5; Interface: Parallel CMOS; Resolution(Bits): 8; Sample Rate (max)(SPS): 30M; SFDR(dB): 50; SINAD(dB): 45; SNR(dB): 46; SubFamily: High Speed ADC (>10MSPS); DatasheetVersion: SBAS059A; PackageVersion: 4040065/E, 12/2001; PackageReference: DB28; PackageDescription: 28-Pin Plastic Small Outline, Body 10.2 X 5.3 mm, Pitch 0.65 mm; Supplier 1: Digi-Key; Supplier Part Number 1: ADS8321E/2K5-ND; Supplier 2: Mouser; Supplier Part Number 2: 595-ADS8321E/2K5; Eco-Plan: Green (RoHS & no Sb/Br); Mounting Technology: Surface Mount; Code_JEDEC: MO-150; ComponentLink1Description: Manufacturer URL; ComponentLink1URL: http://www.ti.com/; ComponentLink2Description: Datasheet; ComponentLink2URL: http://www.ti.com/general/docs/lit/getliterature.tsp?genericPartNumber=ADS930&fileType=pdf; ComponentLink3Description: Package Specification; ComponentLink3URL: http://www.ti.com/lit/ml/msso002e/msso002e.pdf
footprint TI-DB28_N (SOP, 28-Leads, Body 10.2x5.3mm, Pitch 0.65mm, IPC Medium Density)
footprint TI-DB28_L (SOP, 28-Leads, Body 10.2x5.3mm, Pitch 0.65mm, IPC High Density)
footprint TI-DB28_M (SOP, 28-Leads, Body 10.2x5.3mm, Pitch 0.65mm, IPC Low Density)
pins: 1 VS+ (power) "Analog Supply", 2 LVDD (power) "Output Logic Driver Supply Voltage", 3 NC "No Connection", 4 NC "No Connection", 5 BIT 8 (LSB) (hiz) "Data Bit 8 (D7) LSB", 6 BIT 7 (hiz) "Data Bit 7 (D6)", 7 BIT 6 (hiz) "Data Bit 6 (D5)", 8 BIT 5 (hiz) "Data Bit 5 (D4)", 9 BIT 4 (hiz) "Data Bit 4 (D3)", 10 BIT 3 (hiz) "Data Bit 3 (D2)", 11 BIT 2 (hiz) "Data Bit 2 (D1)", 12 BIT 1 (MSB) (hiz) "Data Bit 1 (D0) MSB", 13 GND (power) "Analog Ground", 14 GND (power) "Analog Ground", 15 CLK (in) "Convert Clock Input", 16 ~{OE} (in) "Output Enable, Active Low", 17 PWRDN (in) "Power Down Pin", 18 VS+ (power) "Analog Supply", 19 GND (power) "Analog Ground", 20 GND (power) "Analog Ground", 21 LPBY (out) "Positive Ladder Bypass", 22 NC "No Connection", 23 1VREF (out) "1V Reference Output", 24 ~{IN} (in) "Complementary Input", 25 LNBY (out) "Negative Ladder Bypass", 26 CM (out) "Common-Mode Voltage Output", 27 IN+ (in) "Analog Input", 28 VS+ (power) "Analog Supply"

## ADS930E/1K
designator U?
8-Bit, 30 MSPS ADC Single-Ended / Differential Inputs with Internal Reference and Low Power, Power Down, -40 to 85 degC, 28-pin SOP (DB28), Green (RoHS & no Sb/Br); Manufacturer: Texas Instruments; PartNumber: ADS930E/1K; # Input Channels: 1; Analog Voltage AV/DD(Max)(V): 5.25; Analog Voltage AV/DD(Min)(V): 2.7; Architecture: Pipeline; Digital Supply(Max)(V): 5; Digital Supply(Min)(V): 3; ENOB(Bits): 7.1; INL(Max)(+/-LSB): 2.5; Interface: Parallel CMOS; Resolution(Bits): 8; Sample Rate (max)(SPS): 30M; SFDR(dB): 50; SINAD(dB): 45; SNR(dB): 46; SubFamily: High Speed ADC (>10MSPS); DatasheetVersion: SBAS059A; PackageVersion: 4040065/E, 12/2001; PackageReference: DB28; PackageDescription: 28-Pin Plastic Small Outline, Body 10.2 X 5.3 mm, Pitch 0.65 mm; Supplier 1: Digi-Key; Supplier Part Number 1: ADS8321E/2K5G4-ND; Supplier 2: Mouser; Supplier Part Number 2: 595-ADS8321E/2K5G4; Eco-Plan: Green (RoHS & no Sb/Br); Mounting Technology: Surface Mount; Code_JEDEC: MO-150; ComponentLink1Description: Manufacturer URL; ComponentLink1URL: http://www.ti.com/; ComponentLink2Description: Datasheet; ComponentLink2URL: http://www.ti.com/general/docs/lit/getliterature.tsp?genericPartNumber=ADS930&fileType=pdf; ComponentLink3Description: Package Specification; ComponentLink3URL: http://www.ti.com/lit/ml/msso002e/msso002e.pdf
footprint TI-DB28_N (SOP, 28-Leads, Body 10.2x5.3mm, Pitch 0.65mm, IPC Medium Density)
footprint TI-DB28_L (SOP, 28-Leads, Body 10.2x5.3mm, Pitch 0.65mm, IPC High Density)
footprint TI-DB28_M (SOP, 28-Leads, Body 10.2x5.3mm, Pitch 0.65mm, IPC Low Density)
pins: 1 VS+ (power) "Analog Supply", 2 LVDD (power) "Output Logic Driver Supply Voltage", 3 NC "No Connection", 4 NC "No Connection", 5 BIT 8 (LSB) (hiz) "Data Bit 8 (D7) LSB", 6 BIT 7 (hiz) "Data Bit 7 (D6)", 7 BIT 6 (hiz) "Data Bit 6 (D5)", 8 BIT 5 (hiz) "Data Bit 5 (D4)", 9 BIT 4 (hiz) "Data Bit 4 (D3)", 10 BIT 3 (hiz) "Data Bit 3 (D2)", 11 BIT 2 (hiz) "Data Bit 2 (D1)", 12 BIT 1 (MSB) (hiz) "Data Bit 1 (D0) MSB", 13 GND (power) "Analog Ground", 14 GND (power) "Analog Ground", 15 CLK (in) "Convert Clock Input", 16 ~{OE} (in) "Output Enable, Active Low", 17 PWRDN (in) "Power Down Pin", 18 VS+ (power) "Analog Supply", 19 GND (power) "Analog Ground", 20 GND (power) "Analog Ground", 21 LPBY (out) "Positive Ladder Bypass", 22 NC "No Connection", 23 1VREF (out) "1V Reference Output", 24 ~{IN} (in) "Complementary Input", 25 LNBY (out) "Negative Ladder Bypass", 26 CM (out) "Common-Mode Voltage Output", 27 IN+ (in) "Analog Input", 28 VS+ (power) "Analog Supply"

## ADS930E/1KG4
designator U?
8-Bit, 30 MSPS ADC Single-Ended / Differential Inputs with Internal Reference and Low Power, Power Down, -40 to 85 degC, 28-pin SOP (DB28), Green (RoHS & no Sb/Br); Manufacturer: Texas Instruments; PartNumber: ADS930E/1KG4; # Input Channels: 1; Analog Voltage AV/DD(Max)(V): 5.25; Analog Voltage AV/DD(Min)(V): 2.7; Architecture: Pipeline; Digital Supply(Max)(V): 5; Digital Supply(Min)(V): 3; ENOB(Bits): 7.1; INL(Max)(+/-LSB): 2.5; Interface: Parallel CMOS; Resolution(Bits): 8; Sample Rate (max)(SPS): 30M; SFDR(dB): 50; SINAD(dB): 45; SNR(dB): 46; SubFamily: High Speed ADC (>10MSPS); DatasheetVersion: SBAS059A; PackageVersion: 4040065/E, 12/2001; PackageReference: DB28; PackageDescription: 28-Pin Plastic Small Outline, Body 10.2 X 5.3 mm, Pitch 0.65 mm; Supplier 1: Digi-Key; Supplier Part Number 1: ADS8321EBTR-ND; Supplier 2: Digi-Key; Supplier Part Number 2: ADS8321EBCT-ND; Supplier 3: Digi-Key; Supplier Part Number 3: ADS8321EBDKR-ND; Supplier 4: Newark; Supplier Part Number 4: 74K3638; Supplier 5: Mouser; Supplier Part Number 5: 595-ADS8321EB/250; Eco-Plan: Green (RoHS & no Sb/Br); Mounting Technology: Surface Mount; Code_JEDEC: MO-150; ComponentLink1Description: Manufacturer URL; ComponentLink1URL: http://www.ti.com/; ComponentLink2Description: Datasheet; ComponentLink2URL: http://www.ti.com/general/docs/lit/getliterature.tsp?genericPartNumber=ADS930&fileType=pdf; ComponentLink3Description: Package Specification; ComponentLink3URL: http://www.ti.com/lit/ml/msso002e/msso002e.pdf
footprint TI-DB28_N (SOP, 28-Leads, Body 10.2x5.3mm, Pitch 0.65mm, IPC Medium Density)
footprint TI-DB28_L (SOP, 28-Leads, Body 10.2x5.3mm, Pitch 0.65mm, IPC High Density)
footprint TI-DB28_M (SOP, 28-Leads, Body 10.2x5.3mm, Pitch 0.65mm, IPC Low Density)
pins: 1 VS+ (power) "Analog Supply", 2 LVDD (power) "Output Logic Driver Supply Voltage", 3 NC "No Connection", 4 NC "No Connection", 5 BIT 8 (LSB) (hiz) "Data Bit 8 (D7) LSB", 6 BIT 7 (hiz) "Data Bit 7 (D6)", 7 BIT 6 (hiz) "Data Bit 6 (D5)", 8 BIT 5 (hiz) "Data Bit 5 (D4)", 9 BIT 4 (hiz) "Data Bit 4 (D3)", 10 BIT 3 (hiz) "Data Bit 3 (D2)", 11 BIT 2 (hiz) "Data Bit 2 (D1)", 12 BIT 1 (MSB) (hiz) "Data Bit 1 (D0) MSB", 13 GND (power) "Analog Ground", 14 GND (power) "Analog Ground", 15 CLK (in) "Convert Clock Input", 16 ~{OE} (in) "Output Enable, Active Low", 17 PWRDN (in) "Power Down Pin", 18 VS+ (power) "Analog Supply", 19 GND (power) "Analog Ground", 20 GND (power) "Analog Ground", 21 LPBY (out) "Positive Ladder Bypass", 22 NC "No Connection", 23 1VREF (out) "1V Reference Output", 24 ~{IN} (in) "Complementary Input", 25 LNBY (out) "Negative Ladder Bypass", 26 CM (out) "Common-Mode Voltage Output", 27 IN+ (in) "Analog Input", 28 VS+ (power) "Analog Supply"

## ADS930EG4
designator U?
8-Bit, 30 MSPS ADC Single-Ended / Differential Inputs with Internal Reference and Low Power, Power Down, -40 to 85 degC, 28-pin SOP (DB28), Green (RoHS & no Sb/Br); Manufacturer: Texas Instruments; PartNumber: ADS930EG4; # Input Channels: 1; Analog Voltage AV/DD(Max)(V): 5.25; Analog Voltage AV/DD(Min)(V): 2.7; Architecture: Pipeline; Digital Supply(Max)(V): 5; Digital Supply(Min)(V): 3; ENOB(Bits): 7.1; INL(Max)(+/-LSB): 2.5; Interface: Parallel CMOS; Resolution(Bits): 8; Sample Rate (max)(SPS): 30M; SFDR(dB): 50; SINAD(dB): 45; SNR(dB): 46; SubFamily: High Speed ADC (>10MSPS); DatasheetVersion: SBAS059A; PackageVersion: 4040065/E, 12/2001; PackageReference: DB28; PackageDescription: 28-Pin Plastic Small Outline, Body 10.2 X 5.3 mm, Pitch 0.65 mm; Supplier 1: Digi-Key; Supplier Part Number 1: ADS8321EB/250G4-ND; Supplier 2: Mouser; Supplier Part Number 2: 595-ADS8321EB/250G4; Eco-Plan: Green (RoHS & no Sb/Br); Mounting Technology: Surface Mount; Code_JEDEC: MO-150; ComponentLink1Description: Manufacturer URL; ComponentLink1URL: http://www.ti.com/; ComponentLink2Description: Datasheet; ComponentLink2URL: http://www.ti.com/general/docs/lit/getliterature.tsp?genericPartNumber=ADS930&fileType=pdf; ComponentLink3Description: Package Specification; ComponentLink3URL: http://www.ti.com/lit/ml/msso002e/msso002e.pdf
footprint TI-DB28_N (SOP, 28-Leads, Body 10.2x5.3mm, Pitch 0.65mm, IPC Medium Density)
footprint TI-DB28_L (SOP, 28-Leads, Body 10.2x5.3mm, Pitch 0.65mm, IPC High Density)
footprint TI-DB28_M (SOP, 28-Leads, Body 10.2x5.3mm, Pitch 0.65mm, IPC Low Density)
pins: 1 VS+ (power) "Analog Supply", 2 LVDD (power) "Output Logic Driver Supply Voltage", 3 NC "No Connection", 4 NC "No Connection", 5 BIT 8 (LSB) (hiz) "Data Bit 8 (D7) LSB", 6 BIT 7 (hiz) "Data Bit 7 (D6)", 7 BIT 6 (hiz) "Data Bit 6 (D5)", 8 BIT 5 (hiz) "Data Bit 5 (D4)", 9 BIT 4 (hiz) "Data Bit 4 (D3)", 10 BIT 3 (hiz) "Data Bit 3 (D2)", 11 BIT 2 (hiz) "Data Bit 2 (D1)", 12 BIT 1 (MSB) (hiz) "Data Bit 1 (D0) MSB", 13 GND (power) "Analog Ground", 14 GND (power) "Analog Ground", 15 CLK (in) "Convert Clock Input", 16 ~{OE} (in) "Output Enable, Active Low", 17 PWRDN (in) "Power Down Pin", 18 VS+ (power) "Analog Supply", 19 GND (power) "Analog Ground", 20 GND (power) "Analog Ground", 21 LPBY (out) "Positive Ladder Bypass", 22 NC "No Connection", 23 1VREF (out) "1V Reference Output", 24 ~{IN} (in) "Complementary Input", 25 LNBY (out) "Negative Ladder Bypass", 26 CM (out) "Common-Mode Voltage Output", 27 IN+ (in) "Analog Input", 28 VS+ (power) "Analog Supply"